# Altium footprint library RESC320X160X90L50N.PcbLib: 1 footprints
Each footprint in its own frame and in the unit in brackets; x right, y up, seen from the top. Pads: shape width x height; smd on the part's side, far side on the other; paste and mask are expansions set on the pad; w line width, h text height; cw(c..) or ccw(c..) is an arc to the next point about the centre after c.
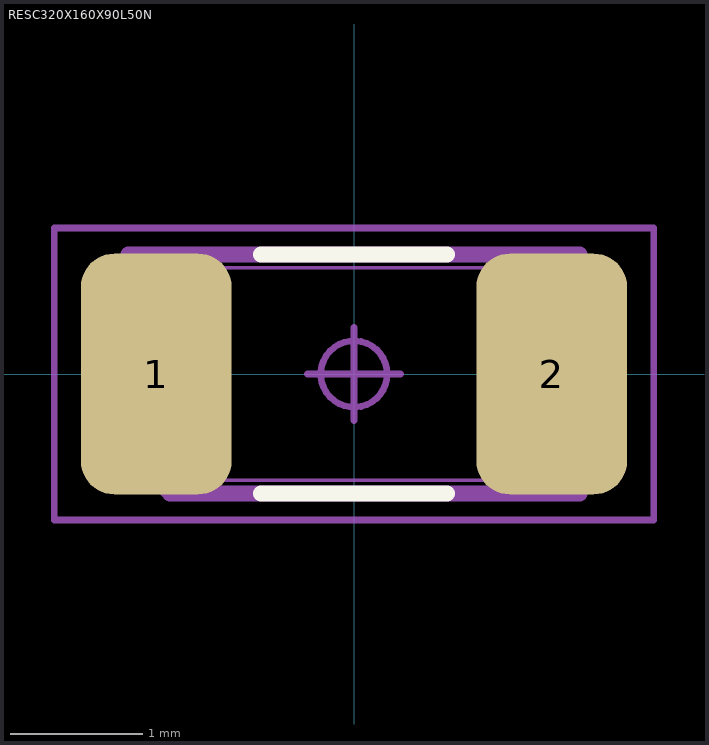
[diagram p0: the footprint, top view; thin cyan lines are the x and y axes]

## RESC320X160X90L50N [mm] "Resistor, Chip; 3.20 mm L X 1.60 mm W X 0.90 mm H Body"
height 0.9
pads (2):
  rrect44% 1.135x1.815 smd: 1(-1.49,0) 2(1.49,0)
Top Overlay:
  lines w0.12: -0.7,-0.9 0.7,-0.9 ; -0.7,0.9 0.7,0.9
Mechanical 3:
  lines w0.12: -1.7,-0.586 -1.7,0.9 1.7,0.9 1.7,-0.9 -1.386,-0.9 -1.7,-0.586
Mechanical 5:
  lines w0.025: -1.6,-0.8 1.6,-0.8 ; -1.6,-0.8 -1.6,0.8 ; -1.6,-0.8 -1.6,0.8 ; -1.6,-0.8 -1.1,-0.8 -1.1,0.8 -1.6,0.8 ; -1.6,0.8 1.6,0.8 ; 1.6,-0.8 1.6,0.8 ; 1.6,-0.8 1.1,-0.8 1.1,0.8 1.6,0.8 ; 1.6,-0.8 1.6,0.8
Mechanical 7:
  circle w0.05: c0,0 r0.25
  lines w0.05: -0.35,0 0.35,0 ; 0,-0.35 0,0.35 ; -2.258,-1.1 2.258,-1.1 2.258,1.1 -2.258,1.1 -2.258,-1.1
Mechanical 9:
  text "'.Designator'" at -5.817,-0.271 h1.02
3D body "RESC320X160X90L50.STEP": height 0.9, standoff 0, extent -1.6,-0.8 1.6,0.8
3D body: height 0.9, standoff 0, extent -2.258,-1.1 2.258,1.1